# EAGLE library part SLIDESWITCH (library SlideSwitch)
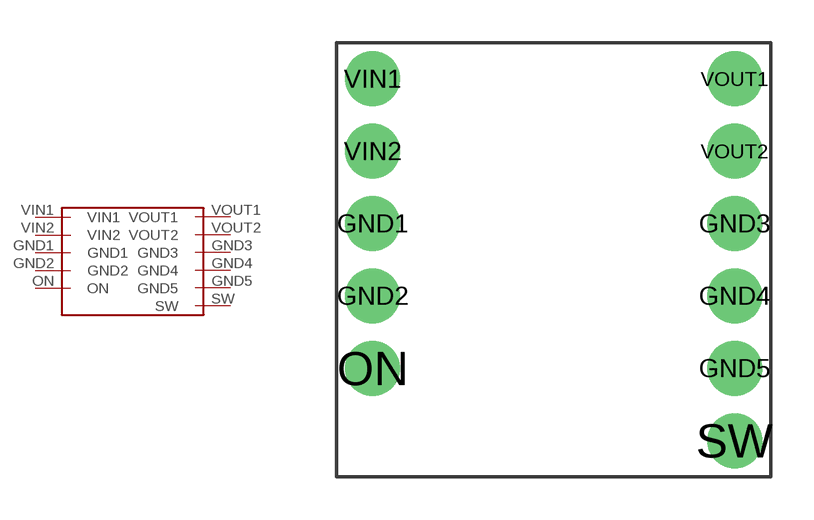
[diagram p0: symbol with the pads of SLIDESWITCH; footprint SLIDESWITCH]

Designator prefix -

## SLIDESWITCH  [SLIDESWITCH]
GND1  GND1
GND2  GND2
GND3  GND3
GND4  GND4
GND5  GND5
ON  ON
SW  SW
VIN1  VIN1
VIN2  VIN2
VOUT1  VOUT1
VOUT2  VOUT2

## Footprint SLIDESWITCH (pad centres in mm)
drill 1 pad 1.93: GND1 1.27,8.89; GND2 1.27,6.35; GND3 13.97,8.89; GND4 13.97,6.35; GND5 13.97,3.81; ON 1.27,3.81; SW 13.97,1.27; VIN1 1.27,13.97; VIN2 1.27,11.43; VOUT1 13.97,13.97; VOUT2 13.97,11.43